# EAGLE library part LTC3869 (library PowerProducts)
Dual, 2-Phase Synchronous Step-Down DC/DC Controllers
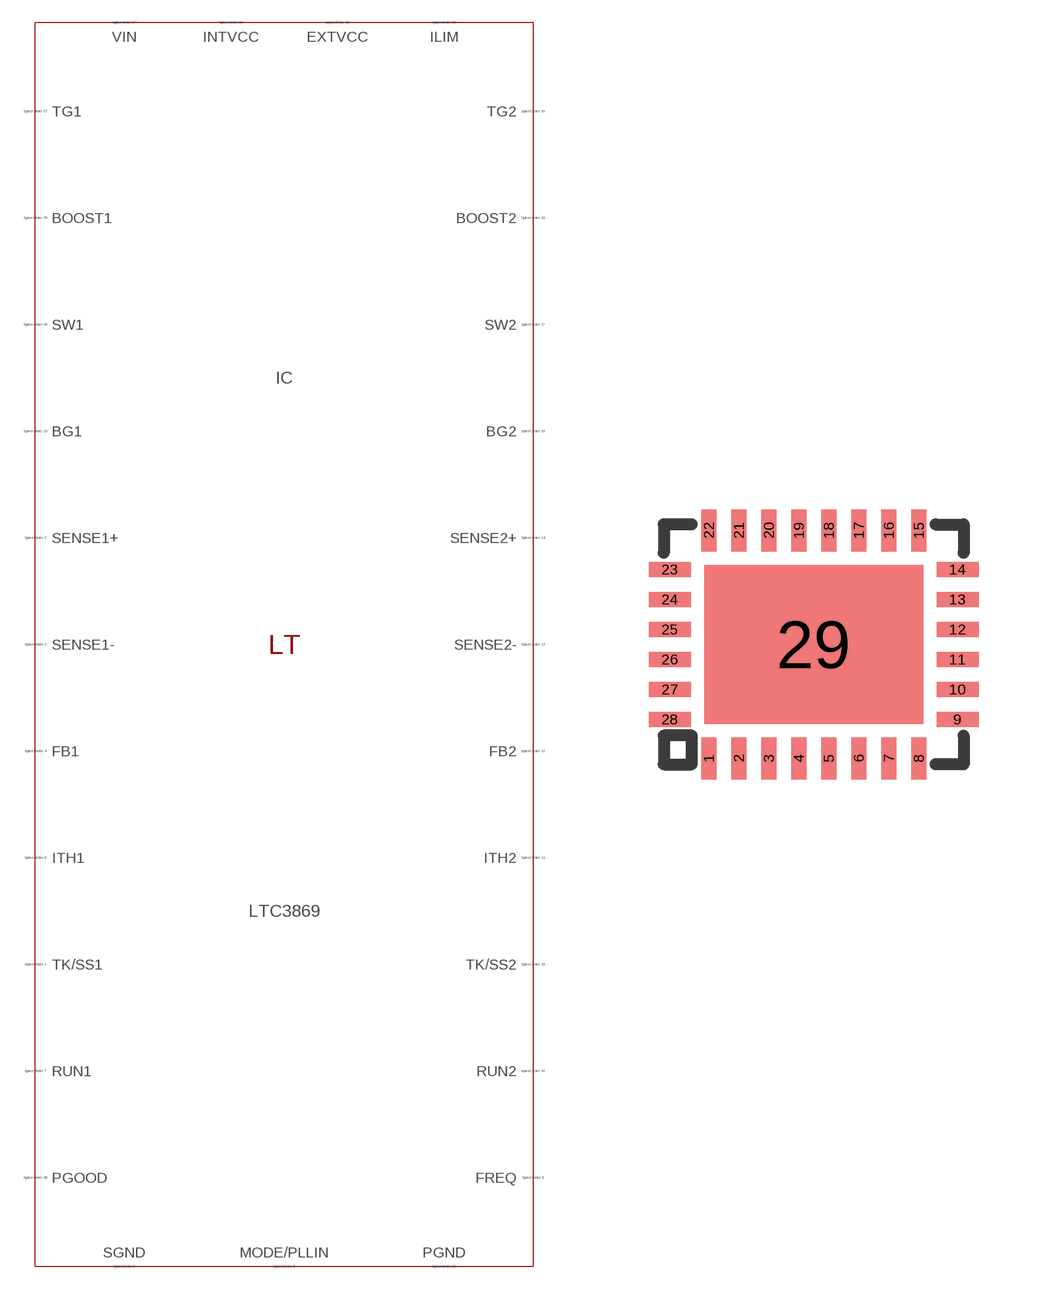
[diagram p387: symbol with the pads of QFN28(UFD); footprint QFN28(UFD)]

Designator prefix IC

## LTC3869 (SPICEMODEL: LTC3869.sub; SPICEPREFIX: X; VALUE2: LTC3869)  [QFN28(UFD)]
1  SENSE1-  pas
2  TK/SS1  pas
3  ITH1  pas
4  FB1  pas
5  FB2  pas
6  ITH2  pas
7  TK/SS2  pas
8  SENSE2-  pas
9  SENSE2+  pas
10  RUN2  pas
11  ILIM  pas
12  EXTVCC  pas
13  PGOOD  pas
14  SW2  pas
15  TG2  pas
16  BOOST2  pas
17  PGND  pas
18  BG2  pas
19  INTVCC  pas
20  VIN  pas
21  BG1  pas
22  BOOST1  pas
23  TG1  pas
24  SW1  pas
25  MODE/PLLIN  pas
26  FREQ  pas
27  RUN1  pas
28  SENSE1+  pas
29  SGND  pas

## Footprint QFN28(UFD) (pad centres in mm)
Package generated from: QFN28(UFD).asc (!PADS-POWERPCB-V5.0-BASIC! DESIGN DATABASE ASCII FILE 1.0) with :import-pads-powerpcb-v5.ulp Version 1.0.1 at 04.10.2012 14:11:25
smd 0.375 x 1.05: 1 -2.625,-2.85; 2 -1.875,-2.85; 3 -1.125,-2.85; 4 -0.375,-2.85; 5 0.375,-2.85; 6 1.125,-2.85; 7 1.875,-2.85; 8 2.625,-2.85; 15 2.625,2.85; 16 1.875,2.85; 17 1.125,2.85; 18 0.375,2.85; 19 -0.375,2.85; 20 -1.125,2.85; 21 -1.875,2.85; 22 -2.625,2.85
smd 1.05 x 0.375: 9 3.6,-1.875; 10 3.6,-1.125; 11 3.6,-0.375; 12 3.6,0.375; 13 3.6,1.125; 14 3.6,1.875; 23 -3.6,1.875; 24 -3.6,1.125; 25 -3.6,0.375; 26 -3.6,-0.375; 27 -3.6,-1.125; 28 -3.6,-1.875
smd 5.475 x 3.975: 29 0,0